# Altium integrated library National Semiconductor LDO.IntLib: 2675 symbols (part 40 of 65)
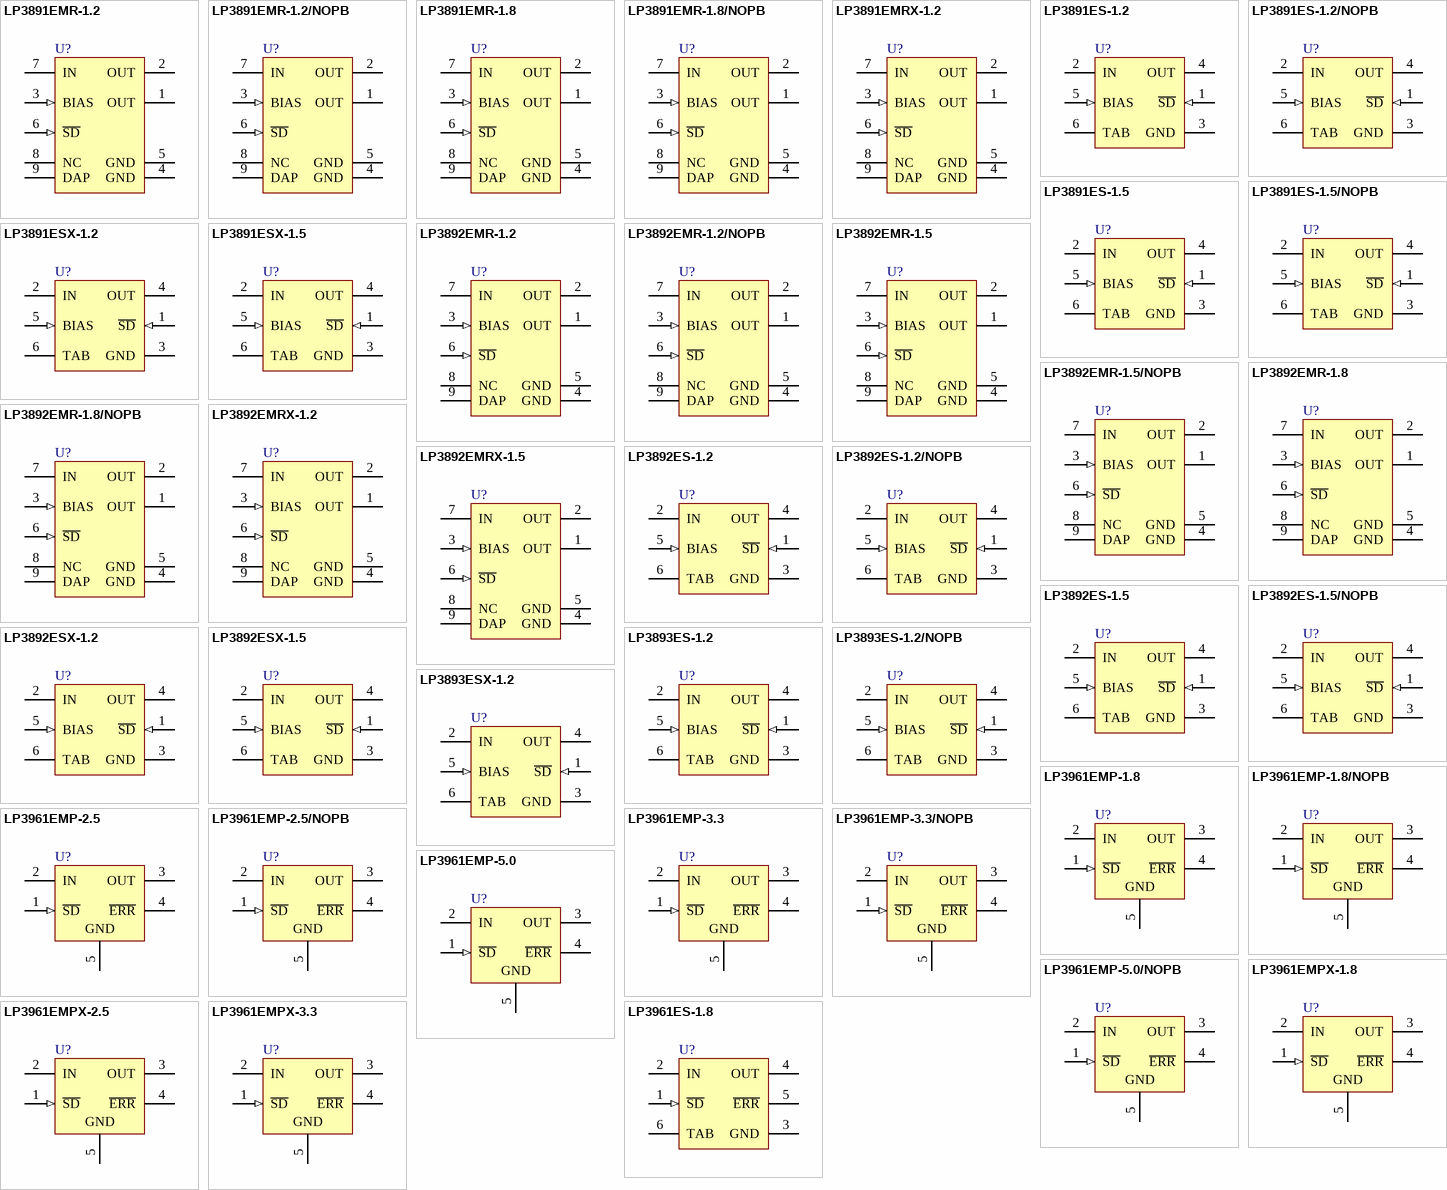
[diagram p106: symbols LP3891EMR-1.2 to LP3961ES-1.8]

## LP3892ESX-1.2
designator U?
1.5A Fast-Response Ultra Low Dropout Linear Regulators, 5-pin TO-263; PartNumber: LP3892ESX-1.2; Manufacturer: National Semiconductor; PackageTopMarking: NSUZXYTTE#*LP3892ES*-1.2; PowerWise: N; CompType: LDO IC; High-Reliability: Y; DatasheetVersion: Jun-2006; PackageVersion: revD, Apr-2005; PackageReference: TS5B; PackageDescription: TO-263, Molded, .400 x .390 x .180in, 5 Lead, .067in Pitch, Surface Mount; RoHS: N; PinCount: 5; Code_JEDEC: MO-169-AB; ComponentLink1Description: Manufacturer URL; ComponentLink1URL: http://www.national.com/; ComponentLink2Description: LP3892 Datasheet; ComponentLink2URL: http://www.national.com/ds/LP/LP3892.pdf; ComponentLink3Description: LP3892 Web Page; ComponentLink3URL: http://www.national.com/pf/LP/LP3892.html; ComponentLink4Description: TS5B Package Page; ComponentLink4URL: http://www.national.com/packaging/folders/ts5b.html
footprint TS5B_N (D2-PAK, 6-Leads, Body 8.6x10.2mm, Pitch 1.7mm, Lead Span 14.1mm, IPC Medium Density)
footprint TS5B_L (D2-PAK, 6-Leads, Body 8.6x10.2mm, Pitch 1.7mm, Lead Span 14.1mm, IPC High Density)
footprint TS5B_M (D2-PAK, 6-Leads, Body 8.6x10.2mm, Pitch 1.7mm, Lead Span 14.1mm, IPC Low Density)
pins: 1 ~{SD} (in), 2 IN (power), 3 GND (power), 4 OUT (power), 5 BIAS (in), 6 TAB (power)

## LP3892ESX-1.5
designator U?
1.5A Fast-Response Ultra Low Dropout Linear Regulators, 5-pin TO-263; PartNumber: LP3892ESX-1.5; Manufacturer: National Semiconductor; PackageTopMarking: NSUZXYTTE#*LP3892ES*-1.5; PowerWise: N; CompType: LDO IC; High-Reliability: Y; DatasheetVersion: Jun-2006; PackageVersion: revD, Apr-2005; PackageReference: TS5B; PackageDescription: TO-263, Molded, .400 x .390 x .180in, 5 Lead, .067in Pitch, Surface Mount; RoHS: N; PinCount: 5; Code_JEDEC: MO-169-AB; ComponentLink1Description: Manufacturer URL; ComponentLink1URL: http://www.national.com/; ComponentLink2Description: LP3892 Datasheet; ComponentLink2URL: http://www.national.com/ds/LP/LP3892.pdf; ComponentLink3Description: LP3892 Web Page; ComponentLink3URL: http://www.national.com/pf/LP/LP3892.html; ComponentLink4Description: TS5B Package Page; ComponentLink4URL: http://www.national.com/packaging/folders/ts5b.html
footprint TS5B_N (D2-PAK, 6-Leads, Body 8.6x10.2mm, Pitch 1.7mm, Lead Span 14.1mm, IPC Medium Density)
footprint TS5B_L (D2-PAK, 6-Leads, Body 8.6x10.2mm, Pitch 1.7mm, Lead Span 14.1mm, IPC High Density)
footprint TS5B_M (D2-PAK, 6-Leads, Body 8.6x10.2mm, Pitch 1.7mm, Lead Span 14.1mm, IPC Low Density)
pins: 1 ~{SD} (in), 2 IN (power), 3 GND (power), 4 OUT (power), 5 BIAS (in), 6 TAB (power)

## LP3893ES-1.2
designator U?
3A Fast-Response Ultra Low Dropout Linear Regulators, 5-pin TO-263; PartNumber: LP3893ES-1.2; Manufacturer: National Semiconductor; PackageTopMarking: NSUZXYTTE#*LP3893ES*-1.2; PowerWise: N; CompType: LDO IC; High-Reliability: Y; DatasheetVersion: Jun-2005; PackageVersion: revD, Apr-2005; PackageReference: TS5B; PackageDescription: TO-263, Molded, .400 x .390 x .180in, 5 Lead, .067in Pitch, Surface Mount; RoHS: N; PinCount: 5; Code_JEDEC: MO-169-AB; ComponentLink1Description: Manufacturer URL; ComponentLink1URL: http://www.national.com/; ComponentLink2Description: LP3893 Datasheet; ComponentLink2URL: http://www.national.com/ds/LP/LP3893.pdf; ComponentLink3Description: LP3893 Web Page; ComponentLink3URL: http://www.national.com/pf/LP/LP3893.html; ComponentLink4Description: TS5B Package Page; ComponentLink4URL: http://www.national.com/packaging/folders/ts5b.html
footprint TS5B_N (D2-PAK, 6-Leads, Body 8.6x10.2mm, Pitch 1.7mm, Lead Span 14.1mm, IPC Medium Density)
footprint TS5B_L (D2-PAK, 6-Leads, Body 8.6x10.2mm, Pitch 1.7mm, Lead Span 14.1mm, IPC High Density)
footprint TS5B_M (D2-PAK, 6-Leads, Body 8.6x10.2mm, Pitch 1.7mm, Lead Span 14.1mm, IPC Low Density)
pins: 1 ~{SD} (in), 2 IN (power), 3 GND (power), 4 OUT (power), 5 BIAS (in), 6 TAB (power)

## LP3893ES-1.2/NOPB
designator U?
3A Fast-Response Ultra Low Dropout Linear Regulators, 5-pin TO-263, Pb-Free; PartNumber: LP3893ES-1.2/NOPB; Manufacturer: National Semiconductor; PackageTopMarking: NSUZXYTTE#*LP3893ES*-1.2; PowerWise: N; CompType: LDO IC; High-Reliability: Y; DatasheetVersion: Jun-2005; PackageVersion: revD, Apr-2005; PackageReference: TS5B; PackageDescription: TO-263, Molded, .400 x .390 x .180in, 5 Lead, .067in Pitch, Surface Mount; RoHS: Y; PinCount: 5; Code_JEDEC: MO-169-AB; ComponentLink1Description: Manufacturer URL; ComponentLink1URL: http://www.national.com/; ComponentLink2Description: LP3893 Datasheet; ComponentLink2URL: http://www.national.com/ds/LP/LP3893.pdf; ComponentLink3Description: LP3893 Web Page; ComponentLink3URL: http://www.national.com/pf/LP/LP3893.html; ComponentLink4Description: TS5B Package Page; ComponentLink4URL: http://www.national.com/packaging/folders/ts5b.html
footprint TS5B_N (D2-PAK, 6-Leads, Body 8.6x10.2mm, Pitch 1.7mm, Lead Span 14.1mm, IPC Medium Density)
footprint TS5B_L (D2-PAK, 6-Leads, Body 8.6x10.2mm, Pitch 1.7mm, Lead Span 14.1mm, IPC High Density)
footprint TS5B_M (D2-PAK, 6-Leads, Body 8.6x10.2mm, Pitch 1.7mm, Lead Span 14.1mm, IPC Low Density)
pins: 1 ~{SD} (in), 2 IN (power), 3 GND (power), 4 OUT (power), 5 BIAS (in), 6 TAB (power)

## LP3893ESX-1.2
designator U?
3A Fast-Response Ultra Low Dropout Linear Regulators, 5-pin TO-263; PartNumber: LP3893ESX-1.2; Manufacturer: National Semiconductor; PackageTopMarking: NSUZXYTTE#*LP3893ES*-1.2; PowerWise: N; CompType: LDO IC; High-Reliability: Y; DatasheetVersion: Jun-2005; PackageVersion: revD, Apr-2005; PackageReference: TS5B; PackageDescription: TO-263, Molded, .400 x .390 x .180in, 5 Lead, .067in Pitch, Surface Mount; RoHS: N; PinCount: 5; Code_JEDEC: MO-169-AB; ComponentLink1Description: Manufacturer URL; ComponentLink1URL: http://www.national.com/; ComponentLink2Description: LP3893 Datasheet; ComponentLink2URL: http://www.national.com/ds/LP/LP3893.pdf; ComponentLink3Description: LP3893 Web Page; ComponentLink3URL: http://www.national.com/pf/LP/LP3893.html; ComponentLink4Description: TS5B Package Page; ComponentLink4URL: http://www.national.com/packaging/folders/ts5b.html
footprint TS5B_N (D2-PAK, 6-Leads, Body 8.6x10.2mm, Pitch 1.7mm, Lead Span 14.1mm, IPC Medium Density)
footprint TS5B_L (D2-PAK, 6-Leads, Body 8.6x10.2mm, Pitch 1.7mm, Lead Span 14.1mm, IPC High Density)
footprint TS5B_M (D2-PAK, 6-Leads, Body 8.6x10.2mm, Pitch 1.7mm, Lead Span 14.1mm, IPC Low Density)
pins: 1 ~{SD} (in), 2 IN (power), 3 GND (power), 4 OUT (power), 5 BIAS (in), 6 TAB (power)

## LP3961EMP-1.8
designator U?
800mA Fast Ultra Low Dropout Linear Regulator, 5-pin SOT-223; PartNumber: LP3961EMP-1.8; Manufacturer: National Semiconductor; PackageTopMarking: XYTT*LBAB; PowerWise: N; CompType: LDO IC; High-Reliability: Y; DatasheetVersion: Sep-2006; PackageVersion: revA, Jan-2000; PackageReference: MP05A; PackageDescription: Moldec SOT-223, 6.50 x 3.56 x 1.6mm Body, 5 Lead, 1.5mm Pitch; RoHS: N; PinCount: 5; Code_JEDEC: TO-261-AB; Code_IPC: SOT223-5; ComponentLink1Description: Manufacturer URL; ComponentLink1URL: http://www.national.com/; ComponentLink2Description: LP3961 Datasheet; ComponentLink2URL: http://www.national.com/ds/LP/LP3961.pdf; ComponentLink3Description: LP3961 Web Page; ComponentLink3URL: http://www.national.com/pf/LP/LP3961.html; ComponentLink4Description: MP05A Package Page; ComponentLink4URL: http://www.national.com/packaging/folders/mp05a.html
footprint MP05A_N (SOT223, 5-Leads, Body 6.5x3.5mm, Pitch 1.5mm, Lead Span 7mm, IPC Medium Density)
footprint MP05A_L (SOT223, 5-Leads, Body 6.5x3.5mm, Pitch 1.5mm, Lead Span 7mm, IPC High Density)
footprint MP05A_M (SOT223, 5-Leads, Body 6.5x3.5mm, Pitch 1.5mm, Lead Span 7mm, IPC Low Density)
pins: 1 ~{SD} (in), 2 IN (power), 3 OUT (power), 4 ~{ERR} (oc), 5 GND (power)

## LP3961EMP-1.8/NOPB
designator U?
800mA Fast Ultra Low Dropout Linear Regulator, 5-pin SOT-223, Pb-Free; PartNumber: LP3961EMP-1.8/NOPB; Manufacturer: National Semiconductor; PackageTopMarking: XYTT*LBAB; PowerWise: N; CompType: LDO IC; High-Reliability: Y; DatasheetVersion: Sep-2006; PackageVersion: revA, Jan-2000; PackageReference: MP05A; PackageDescription: Moldec SOT-223, 6.50 x 3.56 x 1.6mm Body, 5 Lead, 1.5mm Pitch; RoHS: Y; PinCount: 5; Code_JEDEC: TO-261-AB; Code_IPC: SOT223-5; ComponentLink1Description: Manufacturer URL; ComponentLink1URL: http://www.national.com/; ComponentLink2Description: LP3961 Datasheet; ComponentLink2URL: http://www.national.com/ds/LP/LP3961.pdf; ComponentLink3Description: LP3961 Web Page; ComponentLink3URL: http://www.national.com/pf/LP/LP3961.html; ComponentLink4Description: MP05A Package Page; ComponentLink4URL: http://www.national.com/packaging/folders/mp05a.html
footprint MP05A_N (SOT223, 5-Leads, Body 6.5x3.5mm, Pitch 1.5mm, Lead Span 7mm, IPC Medium Density)
footprint MP05A_L (SOT223, 5-Leads, Body 6.5x3.5mm, Pitch 1.5mm, Lead Span 7mm, IPC High Density)
footprint MP05A_M (SOT223, 5-Leads, Body 6.5x3.5mm, Pitch 1.5mm, Lead Span 7mm, IPC Low Density)
pins: 1 ~{SD} (in), 2 IN (power), 3 OUT (power), 4 ~{ERR} (oc), 5 GND (power)

## LP3961EMP-2.5
designator U?
800mA Fast Ultra Low Dropout Linear Regulator, 5-pin SOT-223; PartNumber: LP3961EMP-2.5; Manufacturer: National Semiconductor; PackageTopMarking: XYTT*LBBB; PowerWise: N; CompType: LDO IC; High-Reliability: Y; DatasheetVersion: Sep-2006; PackageVersion: revA, Jan-2000; PackageReference: MP05A; PackageDescription: Moldec SOT-223, 6.50 x 3.56 x 1.6mm Body, 5 Lead, 1.5mm Pitch; RoHS: N; PinCount: 5; Code_JEDEC: TO-261-AB; Code_IPC: SOT223-5; ComponentLink1Description: Manufacturer URL; ComponentLink1URL: http://www.national.com/; ComponentLink2Description: LP3961 Datasheet; ComponentLink2URL: http://www.national.com/ds/LP/LP3961.pdf; ComponentLink3Description: LP3961 Web Page; ComponentLink3URL: http://www.national.com/pf/LP/LP3961.html; ComponentLink4Description: MP05A Package Page; ComponentLink4URL: http://www.national.com/packaging/folders/mp05a.html
footprint MP05A_N (SOT223, 5-Leads, Body 6.5x3.5mm, Pitch 1.5mm, Lead Span 7mm, IPC Medium Density)
footprint MP05A_L (SOT223, 5-Leads, Body 6.5x3.5mm, Pitch 1.5mm, Lead Span 7mm, IPC High Density)
footprint MP05A_M (SOT223, 5-Leads, Body 6.5x3.5mm, Pitch 1.5mm, Lead Span 7mm, IPC Low Density)
pins: 1 ~{SD} (in), 2 IN (power), 3 OUT (power), 4 ~{ERR} (oc), 5 GND (power)

## LP3961EMP-2.5/NOPB
designator U?
800mA Fast Ultra Low Dropout Linear Regulator, 5-pin SOT-223, Pb-Free; PartNumber: LP3961EMP-2.5/NOPB; Manufacturer: National Semiconductor; PackageTopMarking: XYTT*LBBB; PowerWise: N; CompType: LDO IC; High-Reliability: Y; DatasheetVersion: Sep-2006; PackageVersion: revA, Jan-2000; PackageReference: MP05A; PackageDescription: Moldec SOT-223, 6.50 x 3.56 x 1.6mm Body, 5 Lead, 1.5mm Pitch; RoHS: Y; PinCount: 5; Code_JEDEC: TO-261-AB; Code_IPC: SOT223-5; ComponentLink1Description: Manufacturer URL; ComponentLink1URL: http://www.national.com/; ComponentLink2Description: LP3961 Datasheet; ComponentLink2URL: http://www.national.com/ds/LP/LP3961.pdf; ComponentLink3Description: LP3961 Web Page; ComponentLink3URL: http://www.national.com/pf/LP/LP3961.html; ComponentLink4Description: MP05A Package Page; ComponentLink4URL: http://www.national.com/packaging/folders/mp05a.html
footprint MP05A_N (SOT223, 5-Leads, Body 6.5x3.5mm, Pitch 1.5mm, Lead Span 7mm, IPC Medium Density)
footprint MP05A_L (SOT223, 5-Leads, Body 6.5x3.5mm, Pitch 1.5mm, Lead Span 7mm, IPC High Density)
footprint MP05A_M (SOT223, 5-Leads, Body 6.5x3.5mm, Pitch 1.5mm, Lead Span 7mm, IPC Low Density)
pins: 1 ~{SD} (in), 2 IN (power), 3 OUT (power), 4 ~{ERR} (oc), 5 GND (power)

## LP3961EMP-3.3
designator U?
800mA Fast Ultra Low Dropout Linear Regulator, 5-pin SOT-223; PartNumber: LP3961EMP-3.3; Manufacturer: National Semiconductor; PackageTopMarking: XYTT*LAZB; PowerWise: N; CompType: LDO IC; High-Reliability: Y; DatasheetVersion: Sep-2006; PackageVersion: revA, Jan-2000; PackageReference: MP05A; PackageDescription: Moldec SOT-223, 6.50 x 3.56 x 1.6mm Body, 5 Lead, 1.5mm Pitch; RoHS: N; PinCount: 5; Code_JEDEC: TO-261-AB; Code_IPC: SOT223-5; ComponentLink1Description: Manufacturer URL; ComponentLink1URL: http://www.national.com/; ComponentLink2Description: LP3961 Datasheet; ComponentLink2URL: http://www.national.com/ds/LP/LP3961.pdf; ComponentLink3Description: LP3961 Web Page; ComponentLink3URL: http://www.national.com/pf/LP/LP3961.html; ComponentLink4Description: MP05A Package Page; ComponentLink4URL: http://www.national.com/packaging/folders/mp05a.html
footprint MP05A_N (SOT223, 5-Leads, Body 6.5x3.5mm, Pitch 1.5mm, Lead Span 7mm, IPC Medium Density)
footprint MP05A_L (SOT223, 5-Leads, Body 6.5x3.5mm, Pitch 1.5mm, Lead Span 7mm, IPC High Density)
footprint MP05A_M (SOT223, 5-Leads, Body 6.5x3.5mm, Pitch 1.5mm, Lead Span 7mm, IPC Low Density)
pins: 1 ~{SD} (in), 2 IN (power), 3 OUT (power), 4 ~{ERR} (oc), 5 GND (power)

## LP3961EMP-3.3/NOPB
designator U?
800mA Fast Ultra Low Dropout Linear Regulator, 5-pin SOT-223, Pb-Free; PartNumber: LP3961EMP-3.3/NOPB; Manufacturer: National Semiconductor; PackageTopMarking: XYTT*LAZB; PowerWise: N; CompType: LDO IC; High-Reliability: Y; DatasheetVersion: Sep-2006; PackageVersion: revA, Jan-2000; PackageReference: MP05A; PackageDescription: Moldec SOT-223, 6.50 x 3.56 x 1.6mm Body, 5 Lead, 1.5mm Pitch; RoHS: Y; PinCount: 5; Code_JEDEC: TO-261-AB; Code_IPC: SOT223-5; ComponentLink1Description: Manufacturer URL; ComponentLink1URL: http://www.national.com/; ComponentLink2Description: LP3961 Datasheet; ComponentLink2URL: http://www.national.com/ds/LP/LP3961.pdf; ComponentLink3Description: LP3961 Web Page; ComponentLink3URL: http://www.national.com/pf/LP/LP3961.html; ComponentLink4Description: MP05A Package Page; ComponentLink4URL: http://www.national.com/packaging/folders/mp05a.html
footprint MP05A_N (SOT223, 5-Leads, Body 6.5x3.5mm, Pitch 1.5mm, Lead Span 7mm, IPC Medium Density)
footprint MP05A_L (SOT223, 5-Leads, Body 6.5x3.5mm, Pitch 1.5mm, Lead Span 7mm, IPC High Density)
footprint MP05A_M (SOT223, 5-Leads, Body 6.5x3.5mm, Pitch 1.5mm, Lead Span 7mm, IPC Low Density)
pins: 1 ~{SD} (in), 2 IN (power), 3 OUT (power), 4 ~{ERR} (oc), 5 GND (power)

## LP3961EMP-5.0
designator U?
800mA Fast Ultra Low Dropout Linear Regulator, 5-pin SOT-223; PartNumber: LP3961EMP-5.0; Manufacturer: National Semiconductor; PackageTopMarking: XYTT*LBSB; PowerWise: N; CompType: LDO IC; High-Reliability: Y; DatasheetVersion: Sep-2006; PackageVersion: revA, Jan-2000; PackageReference: MP05A; PackageDescription: Moldec SOT-223, 6.50 x 3.56 x 1.6mm Body, 5 Lead, 1.5mm Pitch; RoHS: N; PinCount: 5; Code_JEDEC: TO-261-AB; Code_IPC: SOT223-5; ComponentLink1Description: Manufacturer URL; ComponentLink1URL: http://www.national.com/; ComponentLink2Description: LP3961 Datasheet; ComponentLink2URL: http://www.national.com/ds/LP/LP3961.pdf; ComponentLink3Description: LP3961 Web Page; ComponentLink3URL: http://www.national.com/pf/LP/LP3961.html; ComponentLink4Description: MP05A Package Page; ComponentLink4URL: http://www.national.com/packaging/folders/mp05a.html
footprint MP05A_N (SOT223, 5-Leads, Body 6.5x3.5mm, Pitch 1.5mm, Lead Span 7mm, IPC Medium Density)
footprint MP05A_L (SOT223, 5-Leads, Body 6.5x3.5mm, Pitch 1.5mm, Lead Span 7mm, IPC High Density)
footprint MP05A_M (SOT223, 5-Leads, Body 6.5x3.5mm, Pitch 1.5mm, Lead Span 7mm, IPC Low Density)
pins: 1 ~{SD} (in), 2 IN (power), 3 OUT (power), 4 ~{ERR} (oc), 5 GND (power)

## LP3961EMP-5.0/NOPB
designator U?
800mA Fast Ultra Low Dropout Linear Regulator, 5-pin SOT-223, Pb-Free; PartNumber: LP3961EMP-5.0/NOPB; Manufacturer: National Semiconductor; PackageTopMarking: XYTT*LBSB; PowerWise: N; CompType: LDO IC; High-Reliability: Y; DatasheetVersion: Sep-2006; PackageVersion: revA, Jan-2000; PackageReference: MP05A; PackageDescription: Moldec SOT-223, 6.50 x 3.56 x 1.6mm Body, 5 Lead, 1.5mm Pitch; RoHS: Y; PinCount: 5; Code_JEDEC: TO-261-AB; Code_IPC: SOT223-5; ComponentLink1Description: Manufacturer URL; ComponentLink1URL: http://www.national.com/; ComponentLink2Description: LP3961 Datasheet; ComponentLink2URL: http://www.national.com/ds/LP/LP3961.pdf; ComponentLink3Description: LP3961 Web Page; ComponentLink3URL: http://www.national.com/pf/LP/LP3961.html; ComponentLink4Description: MP05A Package Page; ComponentLink4URL: http://www.national.com/packaging/folders/mp05a.html
footprint MP05A_N (SOT223, 5-Leads, Body 6.5x3.5mm, Pitch 1.5mm, Lead Span 7mm, IPC Medium Density)
footprint MP05A_L (SOT223, 5-Leads, Body 6.5x3.5mm, Pitch 1.5mm, Lead Span 7mm, IPC High Density)
footprint MP05A_M (SOT223, 5-Leads, Body 6.5x3.5mm, Pitch 1.5mm, Lead Span 7mm, IPC Low Density)
pins: 1 ~{SD} (in), 2 IN (power), 3 OUT (power), 4 ~{ERR} (oc), 5 GND (power)

## LP3961EMPX-1.8
designator U?
800mA Fast Ultra Low Dropout Linear Regulator, 5-pin SOT-223; PartNumber: LP3961EMPX-1.8; Manufacturer: National Semiconductor; PackageTopMarking: XYTT*LBAB; PowerWise: N; CompType: LDO IC; High-Reliability: Y; DatasheetVersion: Sep-2006; PackageVersion: revA, Jan-2000; PackageReference: MP05A; PackageDescription: Moldec SOT-223, 6.50 x 3.56 x 1.6mm Body, 5 Lead, 1.5mm Pitch; RoHS: N; PinCount: 5; Code_JEDEC: TO-261-AB; Code_IPC: SOT223-5; ComponentLink1Description: Manufacturer URL; ComponentLink1URL: http://www.national.com/; ComponentLink2Description: LP3961 Datasheet; ComponentLink2URL: http://www.national.com/ds/LP/LP3961.pdf; ComponentLink3Description: LP3961 Web Page; ComponentLink3URL: http://www.national.com/pf/LP/LP3961.html; ComponentLink4Description: MP05A Package Page; ComponentLink4URL: http://www.national.com/packaging/folders/mp05a.html
footprint MP05A_N (SOT223, 5-Leads, Body 6.5x3.5mm, Pitch 1.5mm, Lead Span 7mm, IPC Medium Density)
footprint MP05A_L (SOT223, 5-Leads, Body 6.5x3.5mm, Pitch 1.5mm, Lead Span 7mm, IPC High Density)
footprint MP05A_M (SOT223, 5-Leads, Body 6.5x3.5mm, Pitch 1.5mm, Lead Span 7mm, IPC Low Density)
pins: 1 ~{SD} (in), 2 IN (power), 3 OUT (power), 4 ~{ERR} (oc), 5 GND (power)

## LP3961EMPX-2.5
designator U?
800mA Fast Ultra Low Dropout Linear Regulator, 5-pin SOT-223; PartNumber: LP3961EMPX-2.5; Manufacturer: National Semiconductor; PackageTopMarking: XYTT*LBBB; PowerWise: N; CompType: LDO IC; High-Reliability: Y; DatasheetVersion: Sep-2006; PackageVersion: revA, Jan-2000; PackageReference: MP05A; PackageDescription: Moldec SOT-223, 6.50 x 3.56 x 1.6mm Body, 5 Lead, 1.5mm Pitch; RoHS: N; PinCount: 5; Code_JEDEC: TO-261-AB; Code_IPC: SOT223-5; ComponentLink1Description: Manufacturer URL; ComponentLink1URL: http://www.national.com/; ComponentLink2Description: LP3961 Datasheet; ComponentLink2URL: http://www.national.com/ds/LP/LP3961.pdf; ComponentLink3Description: LP3961 Web Page; ComponentLink3URL: http://www.national.com/pf/LP/LP3961.html; ComponentLink4Description: MP05A Package Page; ComponentLink4URL: http://www.national.com/packaging/folders/mp05a.html
footprint MP05A_N (SOT223, 5-Leads, Body 6.5x3.5mm, Pitch 1.5mm, Lead Span 7mm, IPC Medium Density)
footprint MP05A_L (SOT223, 5-Leads, Body 6.5x3.5mm, Pitch 1.5mm, Lead Span 7mm, IPC High Density)
footprint MP05A_M (SOT223, 5-Leads, Body 6.5x3.5mm, Pitch 1.5mm, Lead Span 7mm, IPC Low Density)
pins: 1 ~{SD} (in), 2 IN (power), 3 OUT (power), 4 ~{ERR} (oc), 5 GND (power)

## LP3961EMPX-3.3
designator U?
800mA Fast Ultra Low Dropout Linear Regulator, 5-pin SOT-223; PartNumber: LP3961EMPX-3.3; Manufacturer: National Semiconductor; PackageTopMarking: XYTT*LAZB; PowerWise: N; CompType: LDO IC; High-Reliability: Y; DatasheetVersion: Sep-2006; PackageVersion: revA, Jan-2000; PackageReference: MP05A; PackageDescription: Moldec SOT-223, 6.50 x 3.56 x 1.6mm Body, 5 Lead, 1.5mm Pitch; RoHS: N; PinCount: 5; Code_JEDEC: TO-261-AB; Code_IPC: SOT223-5; ComponentLink1Description: Manufacturer URL; ComponentLink1URL: http://www.national.com/; ComponentLink2Description: LP3961 Datasheet; ComponentLink2URL: http://www.national.com/ds/LP/LP3961.pdf; ComponentLink3Description: LP3961 Web Page; ComponentLink3URL: http://www.national.com/pf/LP/LP3961.html; ComponentLink4Description: MP05A Package Page; ComponentLink4URL: http://www.national.com/packaging/folders/mp05a.html
footprint MP05A_N (SOT223, 5-Leads, Body 6.5x3.5mm, Pitch 1.5mm, Lead Span 7mm, IPC Medium Density)
footprint MP05A_L (SOT223, 5-Leads, Body 6.5x3.5mm, Pitch 1.5mm, Lead Span 7mm, IPC High Density)
footprint MP05A_M (SOT223, 5-Leads, Body 6.5x3.5mm, Pitch 1.5mm, Lead Span 7mm, IPC Low Density)
pins: 1 ~{SD} (in), 2 IN (power), 3 OUT (power), 4 ~{ERR} (oc), 5 GND (power)

## LP3961ES-1.8
designator U?
800mA Fast Ultra Low Dropout Linear Regulator, 5-pin TO-263; PartNumber: LP3961ES-1.8; Manufacturer: National Semiconductor; PackageTopMarking: NSUZXYTTE#*LP3961ES*-1.8; PowerWise: N; CompType: LDO IC; High-Reliability: Y; DatasheetVersion: Sep-2006; PackageVersion: revD, Apr-2005; PackageReference: TS5B; PackageDescription: TO-263, Molded, .400 x .390 x .180in, 5 Lead, .067in Pitch, Surface Mount; RoHS: N; PinCount: 5; Code_JEDEC: MO-169-AB; ComponentLink1Description: Manufacturer URL; ComponentLink1URL: http://www.national.com/; ComponentLink2Description: LP3961 Datasheet; ComponentLink2URL: http://www.national.com/ds/LP/LP3961.pdf; ComponentLink3Description: LP3961 Web Page; ComponentLink3URL: http://www.national.com/pf/LP/LP3961.html; ComponentLink4Description: TS5B Package Page; ComponentLink4URL: http://www.national.com/packaging/folders/ts5b.html
footprint TS5B_N (D2-PAK, 6-Leads, Body 8.6x10.2mm, Pitch 1.7mm, Lead Span 14.1mm, IPC Medium Density)
footprint TS5B_L (D2-PAK, 6-Leads, Body 8.6x10.2mm, Pitch 1.7mm, Lead Span 14.1mm, IPC High Density)
footprint TS5B_M (D2-PAK, 6-Leads, Body 8.6x10.2mm, Pitch 1.7mm, Lead Span 14.1mm, IPC Low Density)
pins: 1 ~{SD} (in), 2 IN (power), 3 GND (power), 4 OUT (power), 5 ~{ERR} (oc), 6 TAB (power)

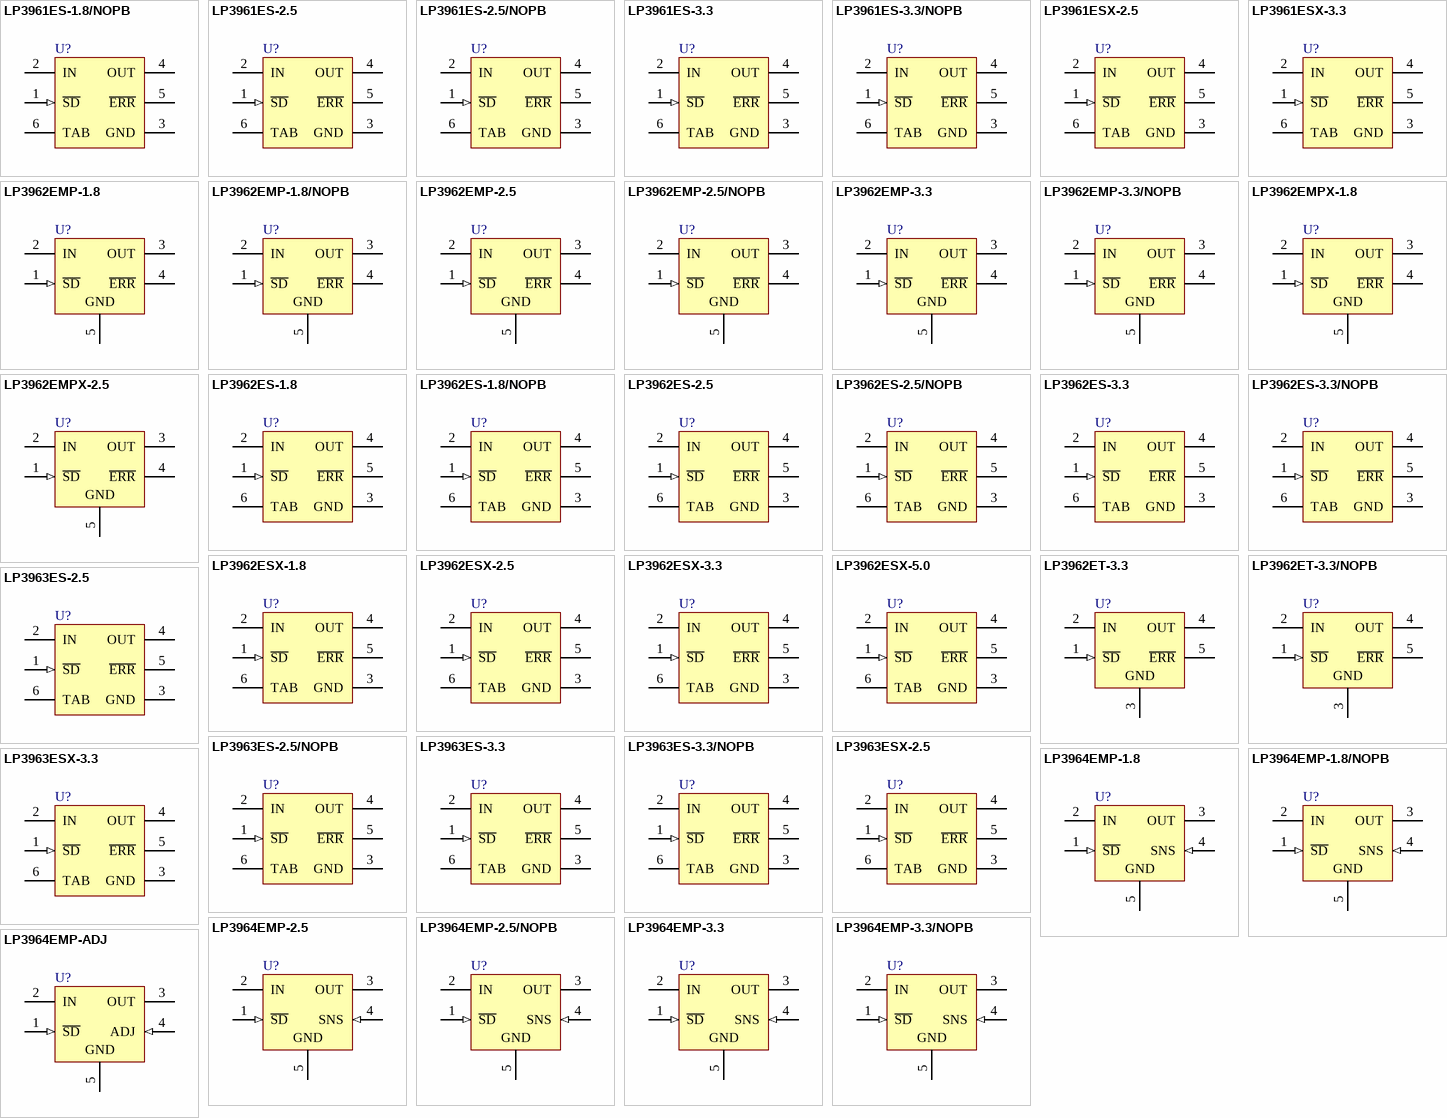
[diagram p41: symbols LP3961ES-1.8/NOPB to LP3964EMP-ADJ]

## LP3961ES-1.8/NOPB
designator U?
800mA Fast Ultra Low Dropout Linear Regulator, 5-pin TO-263, Pb-Free; PartNumber: LP3961ES-1.8/NOPB; Manufacturer: National Semiconductor; PackageTopMarking: NSUZXYTTE#*LP3961ES*-1.8; PowerWise: N; CompType: LDO IC; High-Reliability: Y; DatasheetVersion: Sep-2006; PackageVersion: revD, Apr-2005; PackageReference: TS5B; PackageDescription: TO-263, Molded, .400 x .390 x .180in, 5 Lead, .067in Pitch, Surface Mount; RoHS: Y; PinCount: 5; Code_JEDEC: MO-169-AB; ComponentLink1Description: Manufacturer URL; ComponentLink1URL: http://www.national.com/; ComponentLink2Description: LP3961 Datasheet; ComponentLink2URL: http://www.national.com/ds/LP/LP3961.pdf; ComponentLink3Description: LP3961 Web Page; ComponentLink3URL: http://www.national.com/pf/LP/LP3961.html; ComponentLink4Description: TS5B Package Page; ComponentLink4URL: http://www.national.com/packaging/folders/ts5b.html
footprint TS5B_N (D2-PAK, 6-Leads, Body 8.6x10.2mm, Pitch 1.7mm, Lead Span 14.1mm, IPC Medium Density)
footprint TS5B_L (D2-PAK, 6-Leads, Body 8.6x10.2mm, Pitch 1.7mm, Lead Span 14.1mm, IPC High Density)
footprint TS5B_M (D2-PAK, 6-Leads, Body 8.6x10.2mm, Pitch 1.7mm, Lead Span 14.1mm, IPC Low Density)
pins: 1 ~{SD} (in), 2 IN (power), 3 GND (power), 4 OUT (power), 5 ~{ERR} (oc), 6 TAB (power)

## LP3961ES-2.5
designator U?
800mA Fast Ultra Low Dropout Linear Regulator, 5-pin TO-263; PartNumber: LP3961ES-2.5; Manufacturer: National Semiconductor; PackageTopMarking: NSUZXYTTE#*LP3961ES*-2.5; PowerWise: N; CompType: LDO IC; High-Reliability: Y; DatasheetVersion: Sep-2006; PackageVersion: revD, Apr-2005; PackageReference: TS5B; PackageDescription: TO-263, Molded, .400 x .390 x .180in, 5 Lead, .067in Pitch, Surface Mount; RoHS: N; PinCount: 5; Code_JEDEC: MO-169-AB; ComponentLink1Description: Manufacturer URL; ComponentLink1URL: http://www.national.com/; ComponentLink2Description: LP3961 Datasheet; ComponentLink2URL: http://www.national.com/ds/LP/LP3961.pdf; ComponentLink3Description: LP3961 Web Page; ComponentLink3URL: http://www.national.com/pf/LP/LP3961.html; ComponentLink4Description: TS5B Package Page; ComponentLink4URL: http://www.national.com/packaging/folders/ts5b.html
footprint TS5B_N (D2-PAK, 6-Leads, Body 8.6x10.2mm, Pitch 1.7mm, Lead Span 14.1mm, IPC Medium Density)
footprint TS5B_L (D2-PAK, 6-Leads, Body 8.6x10.2mm, Pitch 1.7mm, Lead Span 14.1mm, IPC High Density)
footprint TS5B_M (D2-PAK, 6-Leads, Body 8.6x10.2mm, Pitch 1.7mm, Lead Span 14.1mm, IPC Low Density)
pins: 1 ~{SD} (in), 2 IN (power), 3 GND (power), 4 OUT (power), 5 ~{ERR} (oc), 6 TAB (power)

## LP3961ES-2.5/NOPB
designator U?
800mA Fast Ultra Low Dropout Linear Regulator, 5-pin TO-263, Pb-Free; PartNumber: LP3961ES-2.5/NOPB; Manufacturer: National Semiconductor; PackageTopMarking: NSUZXYTTE#*LP3961ES*-2.5; PowerWise: N; CompType: LDO IC; High-Reliability: Y; DatasheetVersion: Sep-2006; PackageVersion: revD, Apr-2005; PackageReference: TS5B; PackageDescription: TO-263, Molded, .400 x .390 x .180in, 5 Lead, .067in Pitch, Surface Mount; RoHS: Y; PinCount: 5; Code_JEDEC: MO-169-AB; ComponentLink1Description: Manufacturer URL; ComponentLink1URL: http://www.national.com/; ComponentLink2Description: LP3961 Datasheet; ComponentLink2URL: http://www.national.com/ds/LP/LP3961.pdf; ComponentLink3Description: LP3961 Web Page; ComponentLink3URL: http://www.national.com/pf/LP/LP3961.html; ComponentLink4Description: TS5B Package Page; ComponentLink4URL: http://www.national.com/packaging/folders/ts5b.html
footprint TS5B_N (D2-PAK, 6-Leads, Body 8.6x10.2mm, Pitch 1.7mm, Lead Span 14.1mm, IPC Medium Density)
footprint TS5B_L (D2-PAK, 6-Leads, Body 8.6x10.2mm, Pitch 1.7mm, Lead Span 14.1mm, IPC High Density)
footprint TS5B_M (D2-PAK, 6-Leads, Body 8.6x10.2mm, Pitch 1.7mm, Lead Span 14.1mm, IPC Low Density)
pins: 1 ~{SD} (in), 2 IN (power), 3 GND (power), 4 OUT (power), 5 ~{ERR} (oc), 6 TAB (power)

## LP3961ES-3.3
designator U?
800mA Fast Ultra Low Dropout Linear Regulator, 5-pin TO-263; PartNumber: LP3961ES-3.3; Manufacturer: National Semiconductor; PackageTopMarking: NSUZXYTTE#*LP3961ES*-3.3; PowerWise: N; CompType: LDO IC; High-Reliability: Y; DatasheetVersion: Sep-2006; PackageVersion: revD, Apr-2005; PackageReference: TS5B; PackageDescription: TO-263, Molded, .400 x .390 x .180in, 5 Lead, .067in Pitch, Surface Mount; RoHS: N; PinCount: 5; Code_JEDEC: MO-169-AB; ComponentLink1Description: Manufacturer URL; ComponentLink1URL: http://www.national.com/; ComponentLink2Description: LP3961 Datasheet; ComponentLink2URL: http://www.national.com/ds/LP/LP3961.pdf; ComponentLink3Description: LP3961 Web Page; ComponentLink3URL: http://www.national.com/pf/LP/LP3961.html; ComponentLink4Description: TS5B Package Page; ComponentLink4URL: http://www.national.com/packaging/folders/ts5b.html
footprint TS5B_N (D2-PAK, 6-Leads, Body 8.6x10.2mm, Pitch 1.7mm, Lead Span 14.1mm, IPC Medium Density)
footprint TS5B_L (D2-PAK, 6-Leads, Body 8.6x10.2mm, Pitch 1.7mm, Lead Span 14.1mm, IPC High Density)
footprint TS5B_M (D2-PAK, 6-Leads, Body 8.6x10.2mm, Pitch 1.7mm, Lead Span 14.1mm, IPC Low Density)
pins: 1 ~{SD} (in), 2 IN (power), 3 GND (power), 4 OUT (power), 5 ~{ERR} (oc), 6 TAB (power)

## LP3961ES-3.3/NOPB
designator U?
800mA Fast Ultra Low Dropout Linear Regulator, 5-pin TO-263, Pb-Free; PartNumber: LP3961ES-3.3/NOPB; Manufacturer: National Semiconductor; PackageTopMarking: NSUZXYTTE#*LP3961ES*-3.3; PowerWise: N; CompType: LDO IC; High-Reliability: Y; DatasheetVersion: Sep-2006; PackageVersion: revD, Apr-2005; PackageReference: TS5B; PackageDescription: TO-263, Molded, .400 x .390 x .180in, 5 Lead, .067in Pitch, Surface Mount; RoHS: Y; PinCount: 5; Code_JEDEC: MO-169-AB; ComponentLink1Description: Manufacturer URL; ComponentLink1URL: http://www.national.com/; ComponentLink2Description: LP3961 Datasheet; ComponentLink2URL: http://www.national.com/ds/LP/LP3961.pdf; ComponentLink3Description: LP3961 Web Page; ComponentLink3URL: http://www.national.com/pf/LP/LP3961.html; ComponentLink4Description: TS5B Package Page; ComponentLink4URL: http://www.national.com/packaging/folders/ts5b.html
footprint TS5B_N (D2-PAK, 6-Leads, Body 8.6x10.2mm, Pitch 1.7mm, Lead Span 14.1mm, IPC Medium Density)
footprint TS5B_L (D2-PAK, 6-Leads, Body 8.6x10.2mm, Pitch 1.7mm, Lead Span 14.1mm, IPC High Density)
footprint TS5B_M (D2-PAK, 6-Leads, Body 8.6x10.2mm, Pitch 1.7mm, Lead Span 14.1mm, IPC Low Density)
pins: 1 ~{SD} (in), 2 IN (power), 3 GND (power), 4 OUT (power), 5 ~{ERR} (oc), 6 TAB (power)

## LP3961ESX-2.5
designator U?
800mA Fast Ultra Low Dropout Linear Regulator, 5-pin TO-263; PartNumber: LP3961ESX-2.5; Manufacturer: National Semiconductor; PackageTopMarking: NSUZXYTTE#*LP3961ES*-2.5; PowerWise: N; CompType: LDO IC; High-Reliability: Y; DatasheetVersion: Sep-2006; PackageVersion: revD, Apr-2005; PackageReference: TS5B; PackageDescription: TO-263, Molded, .400 x .390 x .180in, 5 Lead, .067in Pitch, Surface Mount; RoHS: N; PinCount: 5; Code_JEDEC: MO-169-AB; ComponentLink1Description: Manufacturer URL; ComponentLink1URL: http://www.national.com/; ComponentLink2Description: LP3961 Datasheet; ComponentLink2URL: http://www.national.com/ds/LP/LP3961.pdf; ComponentLink3Description: LP3961 Web Page; ComponentLink3URL: http://www.national.com/pf/LP/LP3961.html; ComponentLink4Description: TS5B Package Page; ComponentLink4URL: http://www.national.com/packaging/folders/ts5b.html
footprint TS5B_N (D2-PAK, 6-Leads, Body 8.6x10.2mm, Pitch 1.7mm, Lead Span 14.1mm, IPC Medium Density)
footprint TS5B_L (D2-PAK, 6-Leads, Body 8.6x10.2mm, Pitch 1.7mm, Lead Span 14.1mm, IPC High Density)
footprint TS5B_M (D2-PAK, 6-Leads, Body 8.6x10.2mm, Pitch 1.7mm, Lead Span 14.1mm, IPC Low Density)
pins: 1 ~{SD} (in), 2 IN (power), 3 GND (power), 4 OUT (power), 5 ~{ERR} (oc), 6 TAB (power)

## LP3961ESX-3.3
designator U?
800mA Fast Ultra Low Dropout Linear Regulator, 5-pin TO-263; PartNumber: LP3961ESX-3.3; Manufacturer: National Semiconductor; PackageTopMarking: NSUZXYTTE#*LP3961ES*-3.3; PowerWise: N; CompType: LDO IC; High-Reliability: Y; DatasheetVersion: Sep-2006; PackageVersion: revD, Apr-2005; PackageReference: TS5B; PackageDescription: TO-263, Molded, .400 x .390 x .180in, 5 Lead, .067in Pitch, Surface Mount; RoHS: N; PinCount: 5; Code_JEDEC: MO-169-AB; ComponentLink1Description: Manufacturer URL; ComponentLink1URL: http://www.national.com/; ComponentLink2Description: LP3961 Datasheet; ComponentLink2URL: http://www.national.com/ds/LP/LP3961.pdf; ComponentLink3Description: LP3961 Web Page; ComponentLink3URL: http://www.national.com/pf/LP/LP3961.html; ComponentLink4Description: TS5B Package Page; ComponentLink4URL: http://www.national.com/packaging/folders/ts5b.html
footprint TS5B_N (D2-PAK, 6-Leads, Body 8.6x10.2mm, Pitch 1.7mm, Lead Span 14.1mm, IPC Medium Density)
footprint TS5B_L (D2-PAK, 6-Leads, Body 8.6x10.2mm, Pitch 1.7mm, Lead Span 14.1mm, IPC High Density)
footprint TS5B_M (D2-PAK, 6-Leads, Body 8.6x10.2mm, Pitch 1.7mm, Lead Span 14.1mm, IPC Low Density)
pins: 1 ~{SD} (in), 2 IN (power), 3 GND (power), 4 OUT (power), 5 ~{ERR} (oc), 6 TAB (power)

## LP3962EMP-1.8
designator U?
1.5A Fast Ultra Low Dropout Linear Regulator, 5-pin SOT-223; PartNumber: LP3962EMP-1.8; Manufacturer: National Semiconductor; PackageTopMarking: XYTT*LBCB; PowerWise: N; CompType: LDO IC; High-Reliability: Y; DatasheetVersion: Sep-2006; PackageVersion: revA, Jan-2000; PackageReference: MP05A; PackageDescription: Moldec SOT-223, 6.50 x 3.56 x 1.6mm Body, 5 Lead, 1.5mm Pitch; RoHS: N; PinCount: 5; Code_JEDEC: TO-261-AB; Code_IPC: SOT223-5; ComponentLink1Description: Manufacturer URL; ComponentLink1URL: http://www.national.com/; ComponentLink2Description: LP3962 Datasheet; ComponentLink2URL: http://www.national.com/ds/LP/LP3962.pdf; ComponentLink3Description: LP3962 Web Page; ComponentLink3URL: http://www.national.com/pf/LP/LP3962.html; ComponentLink4Description: MP05A Package Page; ComponentLink4URL: http://www.national.com/packaging/folders/mp05a.html
footprint MP05A_N (SOT223, 5-Leads, Body 6.5x3.5mm, Pitch 1.5mm, Lead Span 7mm, IPC Medium Density)
footprint MP05A_L (SOT223, 5-Leads, Body 6.5x3.5mm, Pitch 1.5mm, Lead Span 7mm, IPC High Density)
footprint MP05A_M (SOT223, 5-Leads, Body 6.5x3.5mm, Pitch 1.5mm, Lead Span 7mm, IPC Low Density)
pins: 1 ~{SD} (in), 2 IN (power), 3 OUT (power), 4 ~{ERR} (oc), 5 GND (power)

## LP3962EMP-1.8/NOPB
designator U?
1.5A Fast Ultra Low Dropout Linear Regulator, 5-pin SOT-223, Pb-Free; PartNumber: LP3962EMP-1.8/NOPB; Manufacturer: National Semiconductor; PackageTopMarking: XYTT*LBCB; PowerWise: N; CompType: LDO IC; High-Reliability: Y; DatasheetVersion: Sep-2006; PackageVersion: revA, Jan-2000; PackageReference: MP05A; PackageDescription: Moldec SOT-223, 6.50 x 3.56 x 1.6mm Body, 5 Lead, 1.5mm Pitch; RoHS: Y; PinCount: 5; Code_JEDEC: TO-261-AB; Code_IPC: SOT223-5; ComponentLink1Description: Manufacturer URL; ComponentLink1URL: http://www.national.com/; ComponentLink2Description: LP3962 Datasheet; ComponentLink2URL: http://www.national.com/ds/LP/LP3962.pdf; ComponentLink3Description: LP3962 Web Page; ComponentLink3URL: http://www.national.com/pf/LP/LP3962.html; ComponentLink4Description: MP05A Package Page; ComponentLink4URL: http://www.national.com/packaging/folders/mp05a.html
footprint MP05A_N (SOT223, 5-Leads, Body 6.5x3.5mm, Pitch 1.5mm, Lead Span 7mm, IPC Medium Density)
footprint MP05A_L (SOT223, 5-Leads, Body 6.5x3.5mm, Pitch 1.5mm, Lead Span 7mm, IPC High Density)
footprint MP05A_M (SOT223, 5-Leads, Body 6.5x3.5mm, Pitch 1.5mm, Lead Span 7mm, IPC Low Density)
pins: 1 ~{SD} (in), 2 IN (power), 3 OUT (power), 4 ~{ERR} (oc), 5 GND (power)

## LP3962EMP-2.5
designator U?
1.5A Fast Ultra Low Dropout Linear Regulator, 5-pin SOT-223; PartNumber: LP3962EMP-2.5; Manufacturer: National Semiconductor; PackageTopMarking: XYTT*LBDB; PowerWise: N; CompType: LDO IC; High-Reliability: Y; DatasheetVersion: Sep-2006; PackageVersion: revA, Jan-2000; PackageReference: MP05A; PackageDescription: Moldec SOT-223, 6.50 x 3.56 x 1.6mm Body, 5 Lead, 1.5mm Pitch; RoHS: N; PinCount: 5; Code_JEDEC: TO-261-AB; Code_IPC: SOT223-5; ComponentLink1Description: Manufacturer URL; ComponentLink1URL: http://www.national.com/; ComponentLink2Description: LP3962 Datasheet; ComponentLink2URL: http://www.national.com/ds/LP/LP3962.pdf; ComponentLink3Description: LP3962 Web Page; ComponentLink3URL: http://www.national.com/pf/LP/LP3962.html; ComponentLink4Description: MP05A Package Page; ComponentLink4URL: http://www.national.com/packaging/folders/mp05a.html
footprint MP05A_N (SOT223, 5-Leads, Body 6.5x3.5mm, Pitch 1.5mm, Lead Span 7mm, IPC Medium Density)
footprint MP05A_L (SOT223, 5-Leads, Body 6.5x3.5mm, Pitch 1.5mm, Lead Span 7mm, IPC High Density)
footprint MP05A_M (SOT223, 5-Leads, Body 6.5x3.5mm, Pitch 1.5mm, Lead Span 7mm, IPC Low Density)
pins: 1 ~{SD} (in), 2 IN (power), 3 OUT (power), 4 ~{ERR} (oc), 5 GND (power)

## LP3962EMP-2.5/NOPB
designator U?
1.5A Fast Ultra Low Dropout Linear Regulator, 5-pin SOT-223, Pb-Free; PartNumber: LP3962EMP-2.5/NOPB; Manufacturer: National Semiconductor; PackageTopMarking: XYTT*LBDB; PowerWise: N; CompType: LDO IC; High-Reliability: Y; DatasheetVersion: Sep-2006; PackageVersion: revA, Jan-2000; PackageReference: MP05A; PackageDescription: Moldec SOT-223, 6.50 x 3.56 x 1.6mm Body, 5 Lead, 1.5mm Pitch; RoHS: Y; PinCount: 5; Code_JEDEC: TO-261-AB; Code_IPC: SOT223-5; ComponentLink1Description: Manufacturer URL; ComponentLink1URL: http://www.national.com/; ComponentLink2Description: LP3962 Datasheet; ComponentLink2URL: http://www.national.com/ds/LP/LP3962.pdf; ComponentLink3Description: LP3962 Web Page; ComponentLink3URL: http://www.national.com/pf/LP/LP3962.html; ComponentLink4Description: MP05A Package Page; ComponentLink4URL: http://www.national.com/packaging/folders/mp05a.html
footprint MP05A_N (SOT223, 5-Leads, Body 6.5x3.5mm, Pitch 1.5mm, Lead Span 7mm, IPC Medium Density)
footprint MP05A_L (SOT223, 5-Leads, Body 6.5x3.5mm, Pitch 1.5mm, Lead Span 7mm, IPC High Density)
footprint MP05A_M (SOT223, 5-Leads, Body 6.5x3.5mm, Pitch 1.5mm, Lead Span 7mm, IPC Low Density)
pins: 1 ~{SD} (in), 2 IN (power), 3 OUT (power), 4 ~{ERR} (oc), 5 GND (power)

## LP3962EMP-3.3
designator U?
1.5A Fast Ultra Low Dropout Linear Regulator, 5-pin SOT-223; PartNumber: LP3962EMP-3.3; Manufacturer: National Semiconductor; PackageTopMarking: XYTT*LBEB; PowerWise: N; CompType: LDO IC; High-Reliability: Y; DatasheetVersion: Sep-2006; PackageVersion: revA, Jan-2000; PackageReference: MP05A; PackageDescription: Moldec SOT-223, 6.50 x 3.56 x 1.6mm Body, 5 Lead, 1.5mm Pitch; RoHS: N; PinCount: 5; Code_JEDEC: TO-261-AB; Code_IPC: SOT223-5; ComponentLink1Description: Manufacturer URL; ComponentLink1URL: http://www.national.com/; ComponentLink2Description: LP3962 Datasheet; ComponentLink2URL: http://www.national.com/ds/LP/LP3962.pdf; ComponentLink3Description: LP3962 Web Page; ComponentLink3URL: http://www.national.com/pf/LP/LP3962.html; ComponentLink4Description: MP05A Package Page; ComponentLink4URL: http://www.national.com/packaging/folders/mp05a.html
footprint MP05A_N (SOT223, 5-Leads, Body 6.5x3.5mm, Pitch 1.5mm, Lead Span 7mm, IPC Medium Density)
footprint MP05A_L (SOT223, 5-Leads, Body 6.5x3.5mm, Pitch 1.5mm, Lead Span 7mm, IPC High Density)
footprint MP05A_M (SOT223, 5-Leads, Body 6.5x3.5mm, Pitch 1.5mm, Lead Span 7mm, IPC Low Density)
pins: 1 ~{SD} (in), 2 IN (power), 3 OUT (power), 4 ~{ERR} (oc), 5 GND (power)

## LP3962EMP-3.3/NOPB
designator U?
1.5A Fast Ultra Low Dropout Linear Regulator, 5-pin SOT-223, Pb-Free; PartNumber: LP3962EMP-3.3/NOPB; Manufacturer: National Semiconductor; PackageTopMarking: XYTT*LBEB; PowerWise: N; CompType: LDO IC; High-Reliability: Y; DatasheetVersion: Sep-2006; PackageVersion: revA, Jan-2000; PackageReference: MP05A; PackageDescription: Moldec SOT-223, 6.50 x 3.56 x 1.6mm Body, 5 Lead, 1.5mm Pitch; RoHS: Y; PinCount: 5; Code_JEDEC: TO-261-AB; Code_IPC: SOT223-5; ComponentLink1Description: Manufacturer URL; ComponentLink1URL: http://www.national.com/; ComponentLink2Description: LP3962 Datasheet; ComponentLink2URL: http://www.national.com/ds/LP/LP3962.pdf; ComponentLink3Description: LP3962 Web Page; ComponentLink3URL: http://www.national.com/pf/LP/LP3962.html; ComponentLink4Description: MP05A Package Page; ComponentLink4URL: http://www.national.com/packaging/folders/mp05a.html
footprint MP05A_N (SOT223, 5-Leads, Body 6.5x3.5mm, Pitch 1.5mm, Lead Span 7mm, IPC Medium Density)
footprint MP05A_L (SOT223, 5-Leads, Body 6.5x3.5mm, Pitch 1.5mm, Lead Span 7mm, IPC High Density)
footprint MP05A_M (SOT223, 5-Leads, Body 6.5x3.5mm, Pitch 1.5mm, Lead Span 7mm, IPC Low Density)
pins: 1 ~{SD} (in), 2 IN (power), 3 OUT (power), 4 ~{ERR} (oc), 5 GND (power)

## LP3962EMPX-1.8
designator U?
1.5A Fast Ultra Low Dropout Linear Regulator, 5-pin SOT-223; PartNumber: LP3962EMPX-1.8; Manufacturer: National Semiconductor; PackageTopMarking: XYTT*LBCB; PowerWise: N; CompType: LDO IC; High-Reliability: Y; DatasheetVersion: Sep-2006; PackageVersion: revA, Jan-2000; PackageReference: MP05A; PackageDescription: Moldec SOT-223, 6.50 x 3.56 x 1.6mm Body, 5 Lead, 1.5mm Pitch; RoHS: N; PinCount: 5; Code_JEDEC: TO-261-AB; Code_IPC: SOT223-5; ComponentLink1Description: Manufacturer URL; ComponentLink1URL: http://www.national.com/; ComponentLink2Description: LP3962 Datasheet; ComponentLink2URL: http://www.national.com/ds/LP/LP3962.pdf; ComponentLink3Description: LP3962 Web Page; ComponentLink3URL: http://www.national.com/pf/LP/LP3962.html; ComponentLink4Description: MP05A Package Page; ComponentLink4URL: http://www.national.com/packaging/folders/mp05a.html
footprint MP05A_N (SOT223, 5-Leads, Body 6.5x3.5mm, Pitch 1.5mm, Lead Span 7mm, IPC Medium Density)
footprint MP05A_L (SOT223, 5-Leads, Body 6.5x3.5mm, Pitch 1.5mm, Lead Span 7mm, IPC High Density)
footprint MP05A_M (SOT223, 5-Leads, Body 6.5x3.5mm, Pitch 1.5mm, Lead Span 7mm, IPC Low Density)
pins: 1 ~{SD} (in), 2 IN (power), 3 OUT (power), 4 ~{ERR} (oc), 5 GND (power)

## LP3962EMPX-2.5
designator U?
1.5A Fast Ultra Low Dropout Linear Regulator, 5-pin SOT-223; PartNumber: LP3962EMPX-2.5; Manufacturer: National Semiconductor; PackageTopMarking: XYTT*LBDB; PowerWise: N; CompType: LDO IC; High-Reliability: Y; DatasheetVersion: Sep-2006; PackageVersion: revA, Jan-2000; PackageReference: MP05A; PackageDescription: Moldec SOT-223, 6.50 x 3.56 x 1.6mm Body, 5 Lead, 1.5mm Pitch; RoHS: N; PinCount: 5; Code_JEDEC: TO-261-AB; Code_IPC: SOT223-5; ComponentLink1Description: Manufacturer URL; ComponentLink1URL: http://www.national.com/; ComponentLink2Description: LP3962 Datasheet; ComponentLink2URL: http://www.national.com/ds/LP/LP3962.pdf; ComponentLink3Description: LP3962 Web Page; ComponentLink3URL: http://www.national.com/pf/LP/LP3962.html; ComponentLink4Description: MP05A Package Page; ComponentLink4URL: http://www.national.com/packaging/folders/mp05a.html
footprint MP05A_N (SOT223, 5-Leads, Body 6.5x3.5mm, Pitch 1.5mm, Lead Span 7mm, IPC Medium Density)
footprint MP05A_L (SOT223, 5-Leads, Body 6.5x3.5mm, Pitch 1.5mm, Lead Span 7mm, IPC High Density)
footprint MP05A_M (SOT223, 5-Leads, Body 6.5x3.5mm, Pitch 1.5mm, Lead Span 7mm, IPC Low Density)
pins: 1 ~{SD} (in), 2 IN (power), 3 OUT (power), 4 ~{ERR} (oc), 5 GND (power)

## LP3962ES-1.8
designator U?
1.5A Fast Ultra Low Dropout Linear Regulator, 5-pin TO-263; PartNumber: LP3962ES-1.8; Manufacturer: National Semiconductor; PackageTopMarking: NSUZXYTTE#*LP3962ES*-1.8; PowerWise: N; CompType: LDO IC; High-Reliability: Y; DatasheetVersion: Sep-2006; PackageVersion: revD, Apr-2005; PackageReference: TS5B; PackageDescription: TO-263, Molded, .400 x .390 x .180in, 5 Lead, .067in Pitch, Surface Mount; RoHS: N; PinCount: 5; Code_JEDEC: MO-169-AB; ComponentLink1Description: Manufacturer URL; ComponentLink1URL: http://www.national.com/; ComponentLink2Description: LP3962 Datasheet; ComponentLink2URL: http://www.national.com/ds/LP/LP3962.pdf; ComponentLink3Description: LP3962 Web Page; ComponentLink3URL: http://www.national.com/pf/LP/LP3962.html; ComponentLink4Description: TS5B Package Page; ComponentLink4URL: http://www.national.com/packaging/folders/ts5b.html
footprint TS5B_N (D2-PAK, 6-Leads, Body 8.6x10.2mm, Pitch 1.7mm, Lead Span 14.1mm, IPC Medium Density)
footprint TS5B_L (D2-PAK, 6-Leads, Body 8.6x10.2mm, Pitch 1.7mm, Lead Span 14.1mm, IPC High Density)
footprint TS5B_M (D2-PAK, 6-Leads, Body 8.6x10.2mm, Pitch 1.7mm, Lead Span 14.1mm, IPC Low Density)
pins: 1 ~{SD} (in), 2 IN (power), 3 GND (power), 4 OUT (power), 5 ~{ERR} (oc), 6 TAB (power)

## LP3962ES-1.8/NOPB
designator U?
1.5A Fast Ultra Low Dropout Linear Regulator, 5-pin TO-263, Pb-Free; PartNumber: LP3962ES-1.8/NOPB; Manufacturer: National Semiconductor; PackageTopMarking: NSUZXYTTE#*LP3962ES*-1.8; PowerWise: N; CompType: LDO IC; High-Reliability: Y; DatasheetVersion: Sep-2006; PackageVersion: revD, Apr-2005; PackageReference: TS5B; PackageDescription: TO-263, Molded, .400 x .390 x .180in, 5 Lead, .067in Pitch, Surface Mount; RoHS: Y; PinCount: 5; Code_JEDEC: MO-169-AB; ComponentLink1Description: Manufacturer URL; ComponentLink1URL: http://www.national.com/; ComponentLink2Description: LP3962 Datasheet; ComponentLink2URL: http://www.national.com/ds/LP/LP3962.pdf; ComponentLink3Description: LP3962 Web Page; ComponentLink3URL: http://www.national.com/pf/LP/LP3962.html; ComponentLink4Description: TS5B Package Page; ComponentLink4URL: http://www.national.com/packaging/folders/ts5b.html
footprint TS5B_N (D2-PAK, 6-Leads, Body 8.6x10.2mm, Pitch 1.7mm, Lead Span 14.1mm, IPC Medium Density)
footprint TS5B_L (D2-PAK, 6-Leads, Body 8.6x10.2mm, Pitch 1.7mm, Lead Span 14.1mm, IPC High Density)
footprint TS5B_M (D2-PAK, 6-Leads, Body 8.6x10.2mm, Pitch 1.7mm, Lead Span 14.1mm, IPC Low Density)
pins: 1 ~{SD} (in), 2 IN (power), 3 GND (power), 4 OUT (power), 5 ~{ERR} (oc), 6 TAB (power)

## LP3962ES-2.5
designator U?
1.5A Fast Ultra Low Dropout Linear Regulator, 5-pin TO-263; PartNumber: LP3962ES-2.5; Manufacturer: National Semiconductor; PackageTopMarking: NSUZXYTTE#*LP3962ES*-2.5; PowerWise: N; CompType: LDO IC; High-Reliability: Y; DatasheetVersion: Sep-2006; PackageVersion: revD, Apr-2005; PackageReference: TS5B; PackageDescription: TO-263, Molded, .400 x .390 x .180in, 5 Lead, .067in Pitch, Surface Mount; RoHS: N; PinCount: 5; Code_JEDEC: MO-169-AB; ComponentLink1Description: Manufacturer URL; ComponentLink1URL: http://www.national.com/; ComponentLink2Description: LP3962 Datasheet; ComponentLink2URL: http://www.national.com/ds/LP/LP3962.pdf; ComponentLink3Description: LP3962 Web Page; ComponentLink3URL: http://www.national.com/pf/LP/LP3962.html; ComponentLink4Description: TS5B Package Page; ComponentLink4URL: http://www.national.com/packaging/folders/ts5b.html
footprint TS5B_N (D2-PAK, 6-Leads, Body 8.6x10.2mm, Pitch 1.7mm, Lead Span 14.1mm, IPC Medium Density)
footprint TS5B_L (D2-PAK, 6-Leads, Body 8.6x10.2mm, Pitch 1.7mm, Lead Span 14.1mm, IPC High Density)
footprint TS5B_M (D2-PAK, 6-Leads, Body 8.6x10.2mm, Pitch 1.7mm, Lead Span 14.1mm, IPC Low Density)
pins: 1 ~{SD} (in), 2 IN (power), 3 GND (power), 4 OUT (power), 5 ~{ERR} (oc), 6 TAB (power)

## LP3962ES-2.5/NOPB
designator U?
1.5A Fast Ultra Low Dropout Linear Regulator, 5-pin TO-263, Pb-Free; PartNumber: LP3962ES-2.5/NOPB; Manufacturer: National Semiconductor; PackageTopMarking: NSUZXYTTE#*LP3962ES*-2.5; PowerWise: N; CompType: LDO IC; High-Reliability: Y; DatasheetVersion: Sep-2006; PackageVersion: revD, Apr-2005; PackageReference: TS5B; PackageDescription: TO-263, Molded, .400 x .390 x .180in, 5 Lead, .067in Pitch, Surface Mount; RoHS: Y; PinCount: 5; Code_JEDEC: MO-169-AB; ComponentLink1Description: Manufacturer URL; ComponentLink1URL: http://www.national.com/; ComponentLink2Description: LP3962 Datasheet; ComponentLink2URL: http://www.national.com/ds/LP/LP3962.pdf; ComponentLink3Description: LP3962 Web Page; ComponentLink3URL: http://www.national.com/pf/LP/LP3962.html; ComponentLink4Description: TS5B Package Page; ComponentLink4URL: http://www.national.com/packaging/folders/ts5b.html
footprint TS5B_N (D2-PAK, 6-Leads, Body 8.6x10.2mm, Pitch 1.7mm, Lead Span 14.1mm, IPC Medium Density)
footprint TS5B_L (D2-PAK, 6-Leads, Body 8.6x10.2mm, Pitch 1.7mm, Lead Span 14.1mm, IPC High Density)
footprint TS5B_M (D2-PAK, 6-Leads, Body 8.6x10.2mm, Pitch 1.7mm, Lead Span 14.1mm, IPC Low Density)
pins: 1 ~{SD} (in), 2 IN (power), 3 GND (power), 4 OUT (power), 5 ~{ERR} (oc), 6 TAB (power)

## LP3962ES-3.3
designator U?
1.5A Fast Ultra Low Dropout Linear Regulator, 5-pin TO-263; PartNumber: LP3962ES-3.3; Manufacturer: National Semiconductor; PackageTopMarking: NSUZXYTTE#*LP3962ES*-3.3; PowerWise: N; CompType: LDO IC; High-Reliability: Y; DatasheetVersion: Sep-2006; PackageVersion: revD, Apr-2005; PackageReference: TS5B; PackageDescription: TO-263, Molded, .400 x .390 x .180in, 5 Lead, .067in Pitch, Surface Mount; RoHS: N; PinCount: 5; Code_JEDEC: MO-169-AB; ComponentLink1Description: Manufacturer URL; ComponentLink1URL: http://www.national.com/; ComponentLink2Description: LP3962 Datasheet; ComponentLink2URL: http://www.national.com/ds/LP/LP3962.pdf; ComponentLink3Description: LP3962 Web Page; ComponentLink3URL: http://www.national.com/pf/LP/LP3962.html; ComponentLink4Description: TS5B Package Page; ComponentLink4URL: http://www.national.com/packaging/folders/ts5b.html
footprint TS5B_N (D2-PAK, 6-Leads, Body 8.6x10.2mm, Pitch 1.7mm, Lead Span 14.1mm, IPC Medium Density)
footprint TS5B_L (D2-PAK, 6-Leads, Body 8.6x10.2mm, Pitch 1.7mm, Lead Span 14.1mm, IPC High Density)
footprint TS5B_M (D2-PAK, 6-Leads, Body 8.6x10.2mm, Pitch 1.7mm, Lead Span 14.1mm, IPC Low Density)
pins: 1 ~{SD} (in), 2 IN (power), 3 GND (power), 4 OUT (power), 5 ~{ERR} (oc), 6 TAB (power)

## LP3962ES-3.3/NOPB
designator U?
1.5A Fast Ultra Low Dropout Linear Regulator, 5-pin TO-263, Pb-Free; PartNumber: LP3962ES-3.3/NOPB; Manufacturer: National Semiconductor; PackageTopMarking: NSUZXYTTE#*LP3962ES*-3.3; PowerWise: N; CompType: LDO IC; High-Reliability: Y; DatasheetVersion: Sep-2006; PackageVersion: revD, Apr-2005; PackageReference: TS5B; PackageDescription: TO-263, Molded, .400 x .390 x .180in, 5 Lead, .067in Pitch, Surface Mount; RoHS: Y; PinCount: 5; Code_JEDEC: MO-169-AB; ComponentLink1Description: Manufacturer URL; ComponentLink1URL: http://www.national.com/; ComponentLink2Description: LP3962 Datasheet; ComponentLink2URL: http://www.national.com/ds/LP/LP3962.pdf; ComponentLink3Description: LP3962 Web Page; ComponentLink3URL: http://www.national.com/pf/LP/LP3962.html; ComponentLink4Description: TS5B Package Page; ComponentLink4URL: http://www.national.com/packaging/folders/ts5b.html
footprint TS5B_N (D2-PAK, 6-Leads, Body 8.6x10.2mm, Pitch 1.7mm, Lead Span 14.1mm, IPC Medium Density)
footprint TS5B_L (D2-PAK, 6-Leads, Body 8.6x10.2mm, Pitch 1.7mm, Lead Span 14.1mm, IPC High Density)
footprint TS5B_M (D2-PAK, 6-Leads, Body 8.6x10.2mm, Pitch 1.7mm, Lead Span 14.1mm, IPC Low Density)
pins: 1 ~{SD} (in), 2 IN (power), 3 GND (power), 4 OUT (power), 5 ~{ERR} (oc), 6 TAB (power)